# Altium footprint library Transmitter_libarary.PcbLib: 1 footprints
Each footprint in its own frame and in the unit in brackets; x right, y up, seen from the top. Pads: shape width x height; smd on the part's side, far side on the other; paste and mask are expansions set on the pad; w line width, h text height; cw(c..) or ccw(c..) is an arc to the next point about the centre after c.
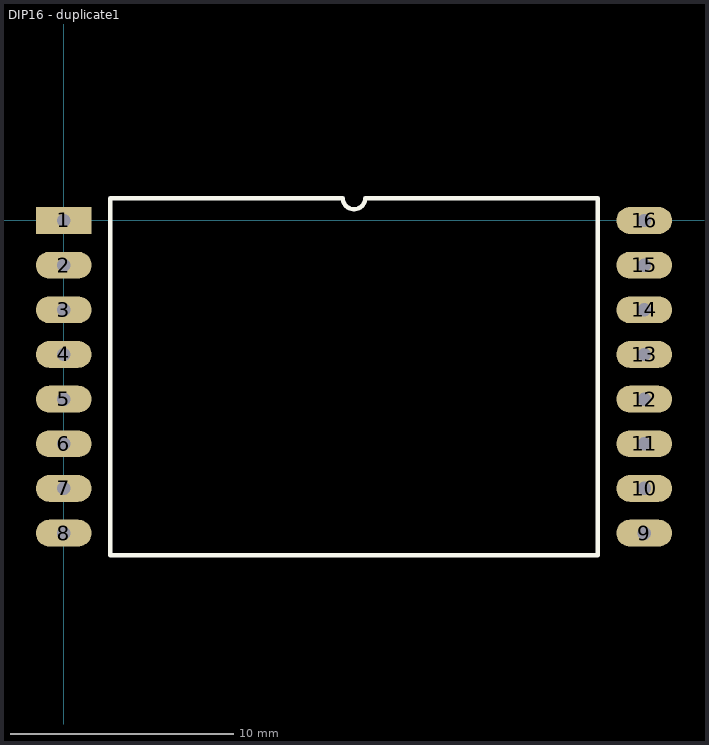
[diagram p0: the footprint, top view; thin cyan lines are the x and y axes]

## DIP16 - duplicate1 [mm]
pads (16):
  rect 2.5x1.2 hole 0.6: 1(0,0)
  oval 2.5x1.2 hole 0.6: 2(0,-2) 3(0,-4) 4(0,-6) 5(0,-8) 6(0,-10) 7(0,-12) 8(0,-14) 9(26,-14) 10(26,-12) 11(26,-10) 12(26,-8) 13(26,-6) 14(26,-4) 15(26,-2) 16(26,0)
Top Overlay:
  lines w0.2: 2.085,-15 2.085,1 12.5,1 ccw(c13,1) 13.5,1 23.915,1 23.915,-15 2.085,-15
3D body "User Library-TRW-SX12783X.STEP": height 2.1, standoff -1.14, extent -4.001,-16.382 31.179,1.524